# Altium footprint library 18650 battery.PCBLIB: 111 footprints (part 6 of 7)
Each footprint in its own frame and in the unit in brackets; x right, y up, seen from the top. Pads: shape width x height; smd on the part's side, far side on the other; paste and mask are expansions set on the pad; w line width, h text height; cw(c..) or ccw(c..) is an arc to the next point about the centre after c.
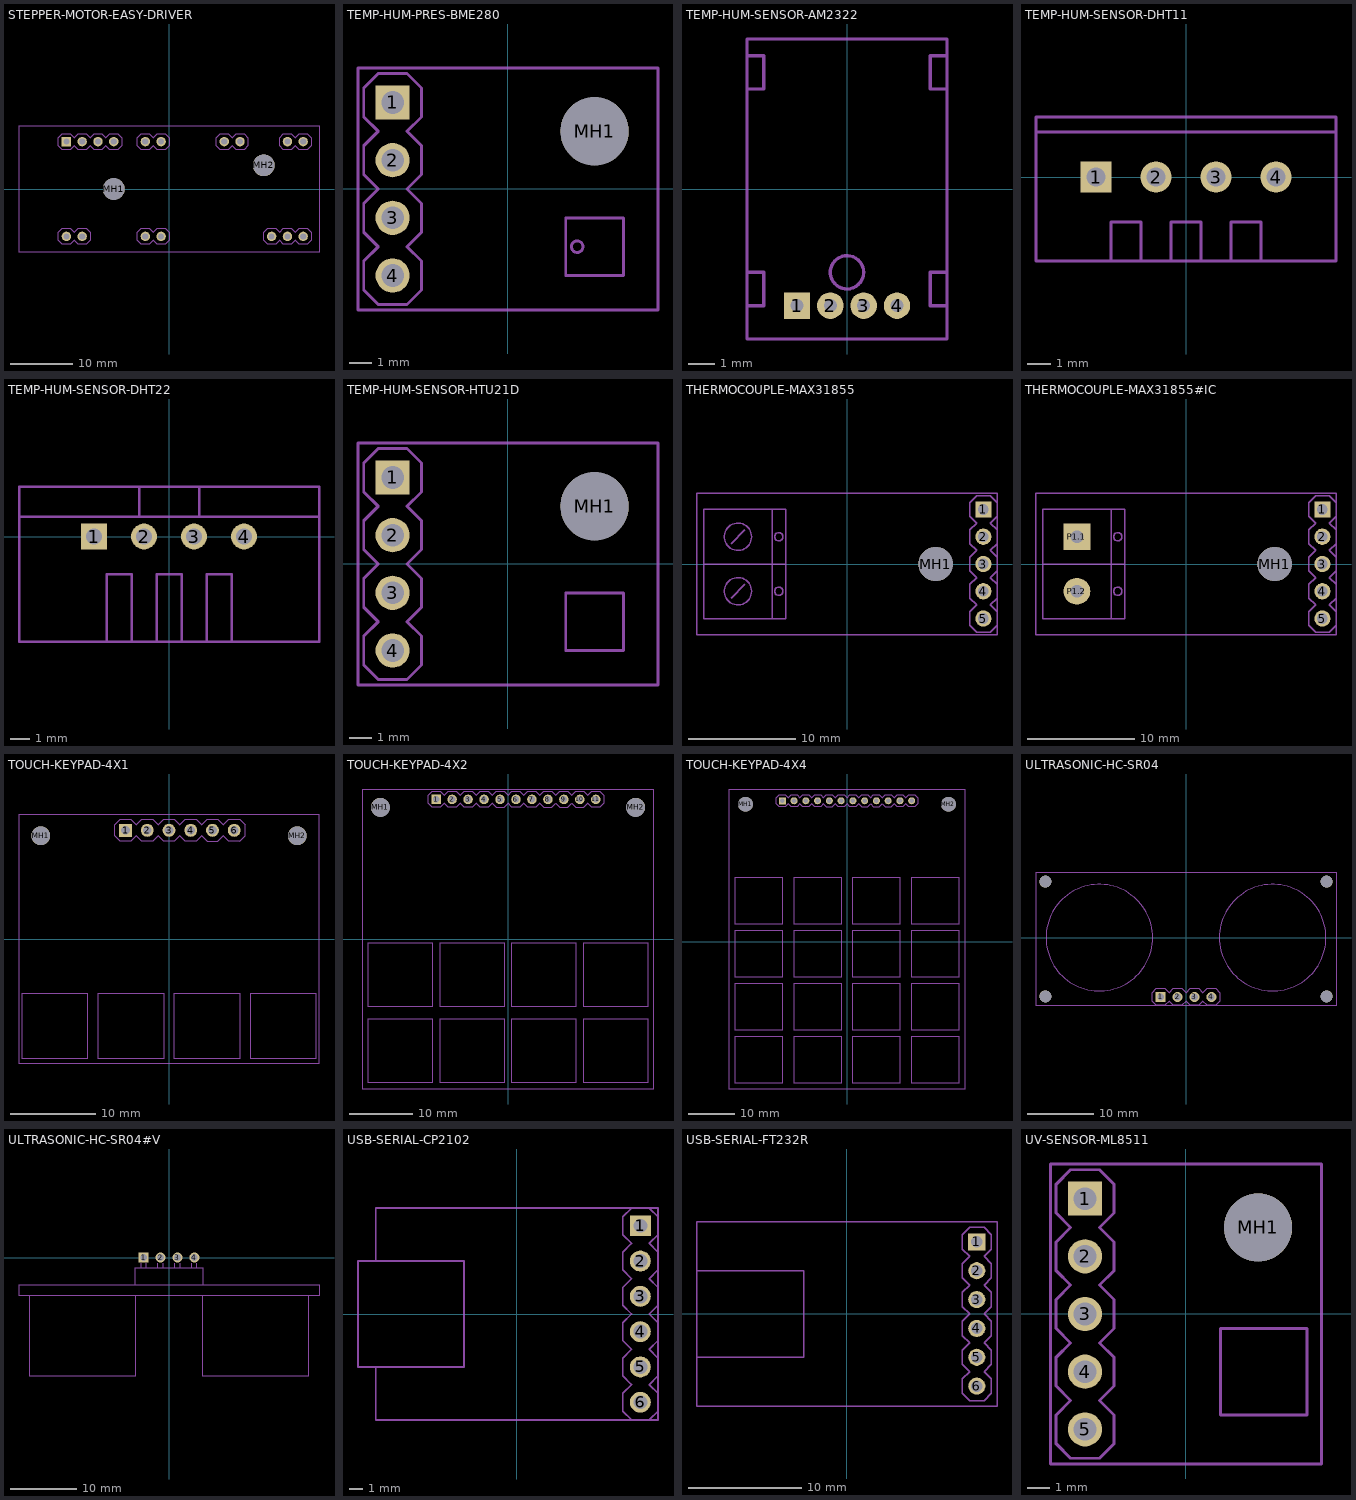
[diagram p5: the footprints below, top view; thin cyan lines are the x and y axes]

## STEPPER-MOTOR-EASY-DRIVER [mm]
pads (19):
  round 1.508 hole 1: JP1.1(19.05,7.62) JP1.2(21.59,7.62) JP2.1(16.51,-7.62) JP2.2(19.05,-7.62) JP2.3(21.59,-7.62) JP3.2(-13.97,7.62) JP3.3(-11.43,7.62) JP3.4(-8.89,7.62) JP4.1(-13.97,-7.62) JP4.2(-16.51,-7.62) JP5.1(-1.27,-7.62) JP5.2(-3.81,-7.62) JP6.1(8.89,7.62) JP6.2(11.43,7.62) JP7.1(-3.81,7.62) JP7.2(-1.27,7.62)
  rect 1.508x1.508 / inner round 1.393 / far side rect 1.508x1.508 hole 1: JP3.1(-16.51,7.62)
  round 3.5 hole 3.5 unplated: MH1(-8.89,0) MH2(15.24,3.81)
tPlace:
  lines w0.127: -24.13,-10.16 24.13,-10.16 24.13,10.16 -24.13,10.16 -24.13,-10.16 ; -17.78,-8.255 -17.145,-8.89 -15.875,-8.89 -15.24,-8.255 -14.605,-8.89 -13.335,-8.89 -12.7,-8.255 -12.7,-6.985 -13.335,-6.35 -14.605,-6.35 -15.24,-6.985 -15.875,-6.35 -17.145,-6.35 -17.78,-6.985 -17.78,-8.255 ; -17.78,6.985 -17.145,6.35 -15.875,6.35 -15.24,6.985 -14.605,6.35 -13.335,6.35 -12.7,6.985 -12.065,6.35 -10.795,6.35 -10.16,6.985 -9.525,6.35 -8.255,6.35 -7.62,6.985 -7.62,8.255 -8.255,8.89 -9.525,8.89 -10.16,8.255 -10.795,8.89 -12.065,8.89 -12.7,8.255 -13.335,8.89 -14.605,8.89 -15.24,8.255 -15.875,8.89 -17.145,8.89 -17.78,8.255 -17.78,6.985 ; -5.08,-8.255 -4.445,-8.89 -3.175,-8.89 -2.54,-8.255 -1.905,-8.89 -0.635,-8.89 0,-8.255 0,-6.985 -0.635,-6.35 -1.905,-6.35 -2.54,-6.985 -3.175,-6.35 -4.445,-6.35 -5.08,-6.985 -5.08,-8.255 ; -5.08,6.985 -4.445,6.35 -3.175,6.35 -2.54,6.985 -1.905,6.35 -0.635,6.35 0,6.985 0,8.255 -0.635,8.89 -1.905,8.89 -2.54,8.255 -3.175,8.89 -4.445,8.89 -5.08,8.255 -5.08,6.985 ; 7.62,6.985 8.255,6.35 9.525,6.35 10.16,6.985 10.795,6.35 12.065,6.35 12.7,6.985 12.7,8.255 12.065,8.89 10.795,8.89 10.16,8.255 9.525,8.89 8.255,8.89 7.62,8.255 7.62,6.985 ; 15.24,-8.255 15.875,-8.89 17.145,-8.89 17.78,-8.255 18.415,-8.89 19.685,-8.89 20.32,-8.255 20.955,-8.89 22.225,-8.89 22.86,-8.255 22.86,-6.985 22.225,-6.35 20.955,-6.35 20.32,-6.985 19.685,-6.35 18.415,-6.35 17.78,-6.985 17.145,-6.35 15.875,-6.35 15.24,-6.985 15.24,-8.255 ; 17.78,6.985 18.415,6.35 19.685,6.35 20.32,6.985 20.955,6.35 22.225,6.35 22.86,6.985 22.86,8.255 22.225,8.89 20.955,8.89 20.32,8.255 19.685,8.89 18.415,8.89 17.78,8.255 17.78,6.985
  text "GND" at -16.51,-5.715 h1.97
  text "+5V" at -13.97,-5.715 h1.97
  text "SLP" at -3.81,-5.715 h1.97
  text "MS1" at -1.27,-5.715 h1.97
  text "GND" at 16.51,-5.715 h1.97
  text "STER" at 19.05,-5.715 h1.97
  text "GND" at 21.59,-5.715 h1.97
  text "A.1" at -16.51,5.715 h1.97
  text "A.2" at -13.97,5.715 h1.97
  text "B.1" at -11.43,5.715 h1.97
  text "B.2" at -8.89,5.715 h1.97
  text "PFD" at -3.81,5.715 h1.97
  text "RST" at -1.27,5.715 h1.97
  text "ENA" at 8.89,5.715 h1.97
  text "MS2" at 11.43,5.715 h1.97
  text "GND" at 19.05,5.715 h1.97
  text "M+" at 21.59,5.715 h1.97

## TEMP-HUM-PRES-BME280 [mm]
pads (5):
  rect 1.508x1.508 / inner round 1.393 / far side rect 1.508x1.508 hole 1: 1(-5.08,3.81)
  round 1.508 hole 1: 2(-5.08,1.27) 3(-5.08,-1.27) 4(-5.08,-3.81)
  round 3 hole 3 unplated: MH1(3.81,2.54)
tPlace:
  circle w0.127: c3.048,-2.54 r0.254
  lines w0.127: -6.604,-5.334 6.604,-5.334 6.604,5.334 -6.604,5.334 -6.604,-5.334 ; -6.35,-4.445 -5.715,-5.08 -4.445,-5.08 -3.81,-4.445 -3.81,-3.175 -4.445,-2.54 -3.81,-1.905 -3.81,-0.635 -4.445,0 -3.81,0.635 -3.81,1.905 -4.445,2.54 -3.81,3.175 -3.81,4.445 -4.445,5.08 -5.715,5.08 -6.35,4.445 -6.35,3.175 -5.715,2.54 -6.35,1.905 -6.35,0.635 -5.715,0 -6.35,-0.635 -6.35,-1.905 -5.715,-2.54 -6.35,-3.175 -6.35,-4.445 ; 2.54,-3.81 5.08,-3.81 5.08,-1.27 2.54,-1.27 2.54,-3.81
  text "SCL" at -3.175,-1.27 h1.97
  text "GND" at -3.175,1.27 h1.97
  text "VIN" at -3.175,3.81 h1.97
  text "SDA" at -3.175,-3.81 h1.97

## TEMP-HUM-SENSOR-AM2322 [mil]
pads (4):
  rect 39.69x39.69 / inner round 36.67 / far side rect 39.69x39.69 hole 19.69: 1(-75,-175)
  round 39.69 hole 19.69: 2(-25,-175) 3(25,-175) 4(75,-175)
tPlace:
  circle w5: c0,-125 r25
  lines w5: -150,-175 -150,-225 150,-225 150,-175 ; -150,-175 -150,-125 ; -150,-175 -125,-175 -125,-125 -150,-125 ; -150,-125 -150,150 ; -150,150 -150,200 ; -150,150 -125,150 -125,200 -150,200 ; -150,200 -150,225 150,225 150,200 ; 150,-175 150,-125 ; 150,-175 125,-175 125,-125 150,-125 ; 150,-125 150,150 ; 150,150 150,200 ; 150,150 125,150 125,200 150,200

## TEMP-HUM-SENSOR-DHT11 [mil]
pads (4):
  rect 51.5x51.5 / inner round 47.58 / far side rect 51.5x51.5 hole 31.5: 1(-150,0)
  round 51.5 hole 31.5: 2(-50,0) 3(50,0) 4(150,0)
tPlace:
  lines w5: -250,75 -250,-140 -125,-140 ; -250,75 -250,100 250,100 250,75 ; -250,75 250,75 ; -125,-140 -75,-140 ; -125,-140 -125,-75 -75,-75 -75,-140 ; -75,-140 -25,-140 ; -25,-140 25,-140 ; -25,-140 -25,-75 25,-75 25,-140 ; 25,-140 75,-140 ; 75,-140 125,-140 ; 75,-140 75,-75 125,-75 125,-140 ; 125,-140 250,-140 250,75

## TEMP-HUM-SENSOR-DHT22 [mil]
pads (4):
  rect 51.5x51.5 / inner round 47.58 / far side rect 51.5x51.5 hole 31.5: 1(-150,0)
  round 51.5 hole 31.5: 2(-50,0) 3(50,0) 4(150,0)
tPlace:
  lines w5: -300,40 -300,-210 -125,-210 ; -300,40 -300,100 -60,100 ; -300,40 -60,40 ; -125,-210 -75,-210 ; -125,-210 -125,-75 -75,-75 -75,-210 ; -75,-210 -25,-210 ; -60,40 60,40 ; -60,40 -60,100 ; -60,100 60,100 ; -25,-210 25,-210 ; -25,-210 -25,-75 25,-75 25,-210 ; 25,-210 75,-210 ; 60,40 300,40 ; 60,40 60,100 ; 60,100 300,100 300,40 ; 75,-210 125,-210 ; 75,-210 75,-75 125,-75 125,-210 ; 125,-210 300,-210 300,40

## TEMP-HUM-SENSOR-HTU21D [mm]
pads (5):
  rect 1.508x1.508 / inner round 1.393 / far side rect 1.508x1.508 hole 1: 1(-5.08,3.81)
  round 1.508 hole 1: 2(-5.08,1.27) 3(-5.08,-1.27) 4(-5.08,-3.81)
  round 3 hole 3 unplated: MH1(3.81,2.54)
tPlace:
  lines w0.127: -6.604,-5.334 6.604,-5.334 6.604,5.334 -6.604,5.334 -6.604,-5.334 ; -6.35,-4.445 -5.715,-5.08 -4.445,-5.08 -3.81,-4.445 -3.81,-3.175 -4.445,-2.54 -3.81,-1.905 -3.81,-0.635 -4.445,0 -3.81,0.635 -3.81,1.905 -4.445,2.54 -3.81,3.175 -3.81,4.445 -4.445,5.08 -5.715,5.08 -6.35,4.445 -6.35,3.175 -5.715,2.54 -6.35,1.905 -6.35,0.635 -5.715,0 -6.35,-0.635 -6.35,-1.905 -5.715,-2.54 -6.35,-3.175 -6.35,-4.445 ; 2.54,-3.81 5.08,-3.81 5.08,-1.27 2.54,-1.27 2.54,-3.81
  text "SCL" at -3.175,-1.27 h1.97
  text "GND" at -3.175,1.27 h1.97
  text "VIN" at -3.175,3.81 h1.97
  text "SDA" at -3.175,-3.81 h1.97

## THERMOCOUPLE-MAX31855 [mm]
pads (6):
  rect 1.508x1.508 / inner round 1.393 / far side rect 1.508x1.508 hole 1: 1(12.7,5.08)
  round 1.508 hole 1: 2(12.7,2.54) 3(12.7,0) 4(12.7,-2.54) 5(12.7,-5.08)
  round 3.2 hole 3.2 unplated: MH1(8.255,0)
tPlace:
  circle w0.127: c-10.16,2.54 r1.27
  circle w0.127: c-10.16,-2.54 r1.27
  circle w0.127: c-6.35,2.54 r0.381
  circle w0.127: c-6.35,-2.54 r0.381
  lines w0.127: -10.795,-3.175 -9.525,-1.905 ; -10.795,1.905 -9.525,3.175 ; 13.97,-5.715 13.335,-6.35 12.065,-6.35 11.43,-5.715 11.43,-4.445 12.065,-3.81 11.43,-3.175 11.43,-1.905 12.065,-1.27 11.43,-0.635 11.43,0.635 12.065,1.27 11.43,1.905 11.43,3.175 12.065,3.81 11.43,4.445 11.43,5.715 12.065,6.35 13.335,6.35 13.97,5.715 ; 13.97,-4.445 13.335,-3.81 13.97,-3.175 ; 13.97,-1.905 13.335,-1.27 13.97,-0.635 ; 13.97,0.635 13.335,1.27 13.97,1.905 ; 13.97,3.175 13.335,3.81 13.97,4.445 ; -13.335,0 -13.335,-5.08 -6.985,-5.08 ; -13.335,0 -13.335,5.08 -6.985,5.08 ; -13.335,0 -5.715,0 ; -6.985,-5.08 -5.715,-5.08 -5.715,0 ; -6.985,-5.08 -6.985,5.08 ; -6.985,5.08 -5.715,5.08 -5.715,0 ; -13.97,-6.604 13.97,-6.604 13.97,6.604 -13.97,6.604 -13.97,-6.604
  text "T-" at -4.445,2.54 h1.97
  text "T+" at -4.445,-2.54 h1.97
  text "VCC" at 10.795,5.08 h1.97
  text "GND" at 10.795,2.54 h1.97
  text "CS" at 10.795,-2.54 h1.97
  text "SCK" at 10.795,-5.08 h1.97
  text "SO" at 5.715,0 h1.97

## THERMOCOUPLE-MAX31855#IC [mm]
pads (8):
  rect 1.508x1.508 / inner round 1.393 / far side rect 1.508x1.508 hole 1: 1(12.7,5.08)
  round 1.508 hole 1: 2(12.7,2.54) 3(12.7,0) 4(12.7,-2.54) 5(12.7,-5.08)
  round 3.2 hole 3.2 unplated: MH1(8.255,0)
  rect 2.5x2.5 / inner round 2.31 / far side rect 2.5x2.5 hole 1.2: P1.1(-10.16,2.54)
  round 2.5 hole 1.2: P1.2(-10.16,-2.54)
tPlace:
  circle w0.127: c-6.35,2.54 r0.381
  circle w0.127: c-6.35,-2.54 r0.381
  lines w0.127: 13.97,-5.715 13.335,-6.35 12.065,-6.35 11.43,-5.715 11.43,-4.445 12.065,-3.81 11.43,-3.175 11.43,-1.905 12.065,-1.27 11.43,-0.635 11.43,0.635 12.065,1.27 11.43,1.905 11.43,3.175 12.065,3.81 11.43,4.445 11.43,5.715 12.065,6.35 13.335,6.35 13.97,5.715 ; 13.97,-4.445 13.335,-3.81 13.97,-3.175 ; 13.97,-1.905 13.335,-1.27 13.97,-0.635 ; 13.97,0.635 13.335,1.27 13.97,1.905 ; 13.97,3.175 13.335,3.81 13.97,4.445 ; -13.335,0 -13.335,-5.08 -6.985,-5.08 ; -13.335,0 -13.335,5.08 -6.985,5.08 ; -13.335,0 -5.715,0 ; -6.985,-5.08 -5.715,-5.08 -5.715,0 ; -6.985,-5.08 -6.985,5.08 ; -6.985,5.08 -5.715,5.08 -5.715,0 ; -13.97,-6.604 13.97,-6.604 13.97,6.604 -13.97,6.604 -13.97,-6.604
  text "T-" at -4.445,2.54 h1.97
  text "T+" at -4.445,-2.54 h1.97
  text "VCC" at 10.795,5.08 h1.97
  text "GND" at 10.795,2.54 h1.97
  text "CS" at 10.795,-2.54 h1.97
  text "SCK" at 10.795,-5.08 h1.97
  text "SO" at 5.715,0 h1.97

## TOUCH-KEYPAD-4X1 [mm]
pads (8):
  rect 1.508x1.508 / inner round 1.393 / far side rect 1.508x1.508 hole 1: 1(-5.08,12.7)
  round 1.508 hole 1: 2(-2.54,12.7) 3(0,12.7) 4(2.54,12.7) 5(5.08,12.7) 6(7.62,12.7)
  round 2.2 hole 2.2 unplated: MH1(-14.986,12.065) MH2(14.986,12.065)
tPlace:
  lines w0.127: -17.526,-14.605 -17.526,14.605 17.526,14.605 17.526,-14.605 -17.526,-14.605 ; -17.145,-13.97 -9.525,-13.97 -9.525,-6.35 -17.145,-6.35 -17.145,-13.97 ; -8.255,-13.97 -0.635,-13.97 -0.635,-6.35 -8.255,-6.35 -8.255,-13.97 ; -6.35,12.065 -5.715,11.43 -4.445,11.43 -3.81,12.065 -3.175,11.43 -1.905,11.43 -1.27,12.065 -0.635,11.43 0.635,11.43 1.27,12.065 1.905,11.43 3.175,11.43 3.81,12.065 4.445,11.43 5.715,11.43 6.35,12.065 6.985,11.43 8.255,11.43 8.89,12.065 8.89,13.335 8.255,13.97 6.985,13.97 6.35,13.335 5.715,13.97 4.445,13.97 3.81,13.335 3.175,13.97 1.905,13.97 1.27,13.335 0.635,13.97 -0.635,13.97 -1.27,13.335 -1.905,13.97 -3.175,13.97 -3.81,13.335 -4.445,13.97 -5.715,13.97 -6.35,13.335 -6.35,12.065 ; 0.635,-13.97 8.255,-13.97 8.255,-6.35 0.635,-6.35 0.635,-13.97 ; 9.525,-13.97 17.145,-13.97 17.145,-6.35 9.525,-6.35 9.525,-13.97
  text "OUT1" at -5.08,10.795 h1.97
  text "OUT2" at -2.54,10.795 h1.97
  text "OUT3" at 0,10.795 h1.97
  text "OUT4" at 2.54,10.795 h1.97
  text "VCC" at 7.62,10.795 h1.97
  text "GND" at 5.08,10.795 h1.97
  text "2" at -4.445,-10.16 h3.94
  text "1" at -13.335,-10.16 h3.94
  text "4" at 13.335,-10.16 h3.94
  text "3" at 4.445,-10.16 h3.94

## TOUCH-KEYPAD-4X2 [mm]
pads (13):
  rect 1.508x1.508 / inner round 1.393 / far side rect 1.508x1.508 hole 1: 1(-11.43,22.225)
  round 1.508 hole 1: 2(-8.89,22.225) 3(-6.35,22.225) 4(-3.81,22.225) 5(-1.27,22.225) 6(1.27,22.225) 7(3.81,22.225) 8(6.35,22.225) 9(8.89,22.225) 10(11.43,22.225) 11(13.97,22.225)
  round 3 hole 3 unplated: MH1(-20.32,20.955) MH2(20.32,20.955)
tPlace:
  lines w0.127: -23.114,-23.876 -23.114,23.876 23.114,23.876 23.114,-23.876 -23.114,-23.876 ; -22.225,-22.86 -12.065,-22.86 -12.065,-12.7 -22.225,-12.7 -22.225,-22.86 ; -22.225,-10.795 -12.065,-10.795 -12.065,-0.635 -22.225,-0.635 -22.225,-10.795 ; -12.7,21.59 -12.065,20.955 -10.795,20.955 -10.16,21.59 -9.525,20.955 -8.255,20.955 -7.62,21.59 -6.985,20.955 -5.715,20.955 -5.08,21.59 -4.445,20.955 -3.175,20.955 -2.54,21.59 -1.905,20.955 -0.635,20.955 0,21.59 0.635,20.955 1.905,20.955 2.54,21.59 3.175,20.955 4.445,20.955 5.08,21.59 5.715,20.955 6.985,20.955 7.62,21.59 8.255,20.955 9.525,20.955 10.16,21.59 10.795,20.955 12.065,20.955 12.7,21.59 13.335,20.955 14.605,20.955 15.24,21.59 15.24,22.86 14.605,23.495 13.335,23.495 12.7,22.86 12.065,23.495 10.795,23.495 10.16,22.86 9.525,23.495 8.255,23.495 7.62,22.86 6.985,23.495 5.715,23.495 5.08,22.86 4.445,23.495 3.175,23.495 2.54,22.86 1.905,23.495 0.635,23.495 0,22.86 -0.635,23.495 -1.905,23.495 -2.54,22.86 -3.175,23.495 -4.445,23.495 -5.08,22.86 -5.715,23.495 -6.985,23.495 -7.62,22.86 -8.255,23.495 -9.525,23.495 -10.16,22.86 -10.795,23.495 -12.065,23.495 -12.7,22.86 -12.7,21.59 ; -10.795,-22.86 -0.635,-22.86 -0.635,-12.7 -10.795,-12.7 -10.795,-22.86 ; -10.795,-10.795 -0.635,-10.795 -0.635,-0.635 -10.795,-0.635 -10.795,-10.795 ; 0.635,-22.86 10.795,-22.86 10.795,-12.7 0.635,-12.7 0.635,-22.86 ; 0.635,-10.795 10.795,-10.795 10.795,-0.635 0.635,-0.635 0.635,-10.795 ; 12.065,-22.86 22.225,-22.86 22.225,-12.7 12.065,-12.7 12.065,-22.86 ; 12.065,-10.795 22.225,-10.795 22.225,-0.635 12.065,-0.635 12.065,-10.795
  text "DV" at -11.43,20.32 h1.97
  text "OUT8" at -8.89,20.32 h1.97
  text "OUT7" at -6.35,20.32 h1.97
  text "OUT6" at -3.81,20.32 h1.97
  text "OUT4" at 1.27,20.32 h1.97
  text "OUT3" at 3.81,20.32 h1.97
  text "GND" at 13.97,20.32 h1.97
  text "OUT5" at -1.27,20.32 h1.97
  text "OUT2" at 6.35,20.32 h1.97
  text "OUT1" at 8.89,20.32 h1.97
  text "VCC" at 11.43,20.32 h1.97
  text "7" at -5.715,-5.715 h3.94
  text "3" at -5.715,-17.78 h3.94
  text "8" at -17.145,-5.715 h3.94
  text "4" at -17.145,-17.78 h3.94
  text "5" at 17.145,-5.715 h3.94
  text "1" at 17.145,-17.78 h3.94
  text "6" at 5.715,-5.715 h3.94
  text "2" at 5.715,-17.78 h3.94

## TOUCH-KEYPAD-4X4 [mm]
pads (14):
  rect 1.508x1.508 / inner round 1.393 / far side rect 1.508x1.508 hole 1: 1(-13.97,30.48)
  round 1.508 hole 1: 2(-11.43,30.48) 3(-8.89,30.48) 4(-6.35,30.48) 5(-3.81,30.48) 6(-1.27,30.48) 7(1.27,30.48) 8(3.81,30.48) 9(6.35,30.48) 10(8.89,30.48) 11(11.43,30.48) 12(13.97,30.48)
  round 3.2 hole 3.2 unplated: MH1(-21.907,29.718) MH2(21.907,29.718)
tPlace:
  lines w0.127: -25.4,-31.75 -25.4,33.02 25.4,33.02 25.4,-31.75 -25.4,-31.75 ; -24.13,-30.48 -13.97,-30.48 -13.97,-20.32 -24.13,-20.32 -24.13,-30.48 ; -24.13,-19.05 -13.97,-19.05 -13.97,-8.89 -24.13,-8.89 -24.13,-19.05 ; -24.13,-7.62 -13.97,-7.62 -13.97,2.54 -24.13,2.54 -24.13,-7.62 ; -24.13,3.81 -13.97,3.81 -13.97,13.97 -24.13,13.97 -24.13,3.81 ; -15.24,29.845 -14.605,29.21 -13.335,29.21 -12.7,29.845 -12.065,29.21 -10.795,29.21 -10.16,29.845 -9.525,29.21 -8.255,29.21 -7.62,29.845 -6.985,29.21 -5.715,29.21 -5.08,29.845 -4.445,29.21 -3.175,29.21 -2.54,29.845 -1.905,29.21 -0.635,29.21 0,29.845 0.635,29.21 1.905,29.21 2.54,29.845 3.175,29.21 4.445,29.21 5.08,29.845 5.715,29.21 6.985,29.21 7.62,29.845 8.255,29.21 9.525,29.21 10.16,29.845 10.795,29.21 12.065,29.21 12.7,29.845 13.335,29.21 14.605,29.21 15.24,29.845 15.24,31.115 14.605,31.75 13.335,31.75 12.7,31.115 12.065,31.75 10.795,31.75 10.16,31.115 9.525,31.75 8.255,31.75 7.62,31.115 6.985,31.75 5.715,31.75 5.08,31.115 4.445,31.75 3.175,31.75 2.54,31.115 1.905,31.75 0.635,31.75 0,31.115 -0.635,31.75 -1.905,31.75 -2.54,31.115 -3.175,31.75 -4.445,31.75 -5.08,31.115 -5.715,31.75 -6.985,31.75 -7.62,31.115 -8.255,31.75 -9.525,31.75 -10.16,31.115 -10.795,31.75 -12.065,31.75 -12.7,31.115 -13.335,31.75 -14.605,31.75 -15.24,31.115 -15.24,29.845 ; -11.43,-30.48 -1.27,-30.48 -1.27,-20.32 -11.43,-20.32 -11.43,-30.48 ; -11.43,-19.05 -1.27,-19.05 -1.27,-8.89 -11.43,-8.89 -11.43,-19.05 ; -11.43,-7.62 -1.27,-7.62 -1.27,2.54 -11.43,2.54 -11.43,-7.62 ; -11.43,3.81 -1.27,3.81 -1.27,13.97 -11.43,13.97 -11.43,3.81 ; 1.27,-30.48 11.43,-30.48 11.43,-20.32 1.27,-20.32 1.27,-30.48 ; 1.27,-19.05 11.43,-19.05 11.43,-8.89 1.27,-8.89 1.27,-19.05 ; 1.27,-7.62 11.43,-7.62 11.43,2.54 1.27,2.54 1.27,-7.62 ; 1.27,3.81 11.43,3.81 11.43,13.97 1.27,13.97 1.27,3.81 ; 13.97,-30.48 24.13,-30.48 24.13,-20.32 13.97,-20.32 13.97,-30.48 ; 13.97,-19.05 24.13,-19.05 24.13,-8.89 13.97,-8.89 13.97,-19.05 ; 13.97,-7.62 24.13,-7.62 24.13,2.54 13.97,2.54 13.97,-7.62 ; 13.97,3.81 24.13,3.81 24.13,13.97 13.97,13.97 13.97,3.81
  text "VCC" at -13.97,28.575 h1.97
  text "GND" at -11.43,28.575 h1.97
  text "SCL" at -8.89,28.575 h1.97
  text "SDO" at -6.35,28.575 h1.97
  text "OUT2" at -1.27,28.575 h1.97
  text "OUT3" at 1.27,28.575 h1.97
  text "OUT7" at 11.43,28.575 h1.97
  text "OUT8" at 13.97,28.575 h1.97
  text "OUT1" at -3.81,28.575 h1.97
  text "OUT4" at 3.81,28.575 h1.97
  text "OUT5" at 6.35,28.575 h1.97
  text "OUT6" at 8.89,28.575 h1.97
  text "1" at -19.05,8.89 h3.94
  text "2" at -6.35,8.89 h3.94
  text "3" at 6.35,8.89 h3.94
  text "4" at 19.05,8.89 h3.94
  text "5" at -19.05,-2.54 h3.94
  text "6" at -6.35,-2.54 h3.94
  text "7" at 6.35,-2.54 h3.94
  text "8" at 19.05,-2.54 h3.94
  text "9" at -19.05,-13.97 h3.94
  text "10" at -6.35,-13.97 h3.94
  text "11" at 6.35,-13.97 h3.94
  text "12" at 19.05,-13.97 h3.94
  text "13" at -19.05,-25.4 h3.94
  text "14" at -6.35,-25.4 h3.94
  text "15" at 6.35,-25.4 h3.94
  text "16" at 19.05,-25.4 h3.94

## ULTRASONIC-HC-SR04 [mm]
pads (8):
  rect 1.508x1.508 / inner round 1.393 / far side rect 1.508x1.508 hole 1: 1(-3.81,-8.89)
  round 1.508 hole 1: 2(-1.27,-8.89) 3(1.27,-8.89) 4(3.81,-8.89)
  round 1.8 hole 1.8 unplated: MH1(-21.1,8.4) MH2(-21.1,-8.8) MH3(21.1,-8.8) MH4(21.1,8.4)
tPlace:
  circle w0.127: c-13,0 r8
  circle w0.127: c13,0 r8
  lines w0.127: -22.5,-10.2 22.5,-10.2 22.5,9.8 -22.5,9.8 -22.5,-10.2 ; -5.08,-9.525 -4.445,-10.16 -3.175,-10.16 -2.54,-9.525 -1.905,-10.16 -0.635,-10.16 0,-9.525 0.635,-10.16 1.905,-10.16 2.54,-9.525 3.175,-10.16 4.445,-10.16 5.08,-9.525 5.08,-8.255 4.445,-7.62 3.175,-7.62 2.54,-8.255 1.905,-7.62 0.635,-7.62 0,-8.255 -0.635,-7.62 -1.905,-7.62 -2.54,-8.255 -3.175,-7.62 -4.445,-7.62 -5.08,-8.255 -5.08,-9.525

## ULTRASONIC-HC-SR04#V [mm]
pads (4):
  rect 1.508x1.508 / inner round 1.393 / far side rect 1.508x1.508 hole 1: 1(-3.81,0)
  round 1.508 hole 1: 2(-1.27,0) 3(1.27,0) 4(3.81,0)
tPlace:
  lines w0.127: -4.191,-0.889 -4.191,-1.524 ; -3.429,-0.889 -3.429,-1.524 ; -1.651,-0.889 -1.651,-1.524 ; -0.889,-0.889 -0.889,-1.524 ; 0.889,-0.889 0.889,-1.524 ; 1.651,-0.889 1.651,-1.524 ; 3.429,-0.889 3.429,-1.524 ; 4.191,-0.889 4.191,-1.524 ; -21,-5.7 -5,-5.7 ; -21,-5.7 -22.5,-5.7 -22.5,-4.064 22.5,-4.064 22.5,-5.7 21,-5.7 ; -21,-5.7 -21,-17.7 -5,-17.7 -5,-5.7 ; -5,-5.7 5,-5.7 ; -4.191,-1.524 -5.08,-1.524 -5.08,-4.064 5.08,-4.064 5.08,-1.524 4.191,-1.524 ; -4.191,-1.524 -3.429,-1.524 ; -3.429,-1.524 -1.651,-1.524 ; -1.651,-1.524 -0.889,-1.524 ; -0.889,-1.524 0.889,-1.524 ; 0.889,-1.524 1.651,-1.524 ; 1.651,-1.524 3.429,-1.524 ; 3.429,-1.524 4.191,-1.524 ; 5,-5.7 21,-5.7 ; 5,-5.7 5,-17.7 21,-17.7 21,-5.7

## USB-SERIAL-CP2102 [mm]
pads (6):
  rect 1.508x1.508 / inner round 1.393 / far side rect 1.508x1.508 hole 1: 1(8.89,6.35)
  round 1.508 hole 1: 2(8.89,3.81) 3(8.89,1.27) 4(8.89,-1.27) 5(8.89,-3.81) 6(8.89,-6.35)
tPlace:
  lines w0.127: 8.255,-7.62 7.62,-6.985 7.62,-5.715 8.255,-5.08 7.62,-4.445 7.62,-3.175 8.255,-2.54 7.62,-1.905 7.62,-0.635 8.255,0 7.62,0.635 7.62,1.905 8.255,2.54 7.62,3.175 7.62,4.445 8.255,5.08 7.62,5.715 7.62,6.985 8.255,7.62 ; 9.525,-7.62 10.16,-6.985 ; 9.525,7.62 10.16,6.985 ; 10.16,-5.715 9.525,-5.08 10.16,-4.445 ; 10.16,-3.175 9.525,-2.54 10.16,-1.905 ; 10.16,-0.635 9.525,0 10.16,0.635 ; 10.16,1.905 9.525,2.54 10.16,3.175 ; 10.16,4.445 9.525,5.08 10.16,5.715 ; -10.16,-3.81 -10.16,-7.62 10.16,-7.62 10.16,7.62 -10.16,7.62 -10.16,3.81 ; -10.16,-3.81 -3.81,-3.81 -3.81,3.81 -10.16,3.81 ; -10.16,-3.81 -11.43,-3.81 -11.43,3.81 -10.16,3.81
  text "USB" at -7.62,0 h2.76
  text "3V3" at 6.35,6.35 h1.97
  text "DTR" at 6.35,3.81 h1.97
  text "RXI" at 6.35,1.27 h1.97
  text "TXO" at 6.35,-1.27 h1.97
  text "GND" at 6.35,-3.81 h1.97
  text "+5V" at 6.35,-6.35 h1.97

## USB-SERIAL-FT232R [mm]
pads (6):
  rect 1.508x1.508 / inner round 1.393 / far side rect 1.508x1.508 hole 1: 1(11.43,6.35)
  round 1.508 hole 1: 2(11.43,3.81) 3(11.43,1.27) 4(11.43,-1.27) 5(11.43,-3.81) 6(11.43,-6.35)
tPlace:
  lines w0.127: -13.208,-3.81 -13.208,3.81 ; -13.208,-3.81 -13.208,-8.128 13.208,-8.128 13.208,8.128 -13.208,8.128 -13.208,3.81 ; -13.208,-3.81 -3.81,-3.81 -3.81,3.81 -13.208,3.81 ; 10.16,-6.985 10.16,-5.715 10.795,-5.08 10.16,-4.445 10.16,-3.175 10.795,-2.54 10.16,-1.905 10.16,-0.635 10.795,0 10.16,0.635 10.16,1.905 10.795,2.54 10.16,3.175 10.16,4.445 10.795,5.08 10.16,5.715 10.16,6.985 10.795,7.62 12.065,7.62 12.7,6.985 12.7,5.715 12.065,5.08 12.7,4.445 12.7,3.175 12.065,2.54 12.7,1.905 12.7,0.635 12.065,0 12.7,-0.635 12.7,-1.905 12.065,-2.54 12.7,-3.175 12.7,-4.445 12.065,-5.08 12.7,-5.715 12.7,-6.985 12.065,-7.62 10.795,-7.62 10.16,-6.985
  text "USB" at -8.89,0 h2.76
  text "DTR" at 8.89,6.35 h1.97
  text "RX" at 8.89,3.81 h1.97
  text "TX" at 8.89,1.27 h1.97
  text "VCC" at 8.89,-1.27 h1.97
  text "CTS" at 8.89,-3.81 h1.97
  text "GND" at 8.89,-6.35 h1.97

## UV-SENSOR-ML8511 [mm]
pads (6):
  rect 1.508x1.508 / inner round 1.393 / far side rect 1.508x1.508 hole 1: 1(-4.445,5.08)
  round 1.508 hole 1: 2(-4.445,2.54) 3(-4.445,0) 4(-4.445,-2.54) 5(-4.445,-5.08)
  round 3 hole 3 unplated: MH1(3.175,3.81)
tPlace:
  lines w0.127: -5.969,-6.604 5.969,-6.604 5.969,6.604 -5.969,6.604 -5.969,-6.604 ; -5.715,-5.715 -5.715,-4.445 -5.08,-3.81 -5.715,-3.175 -5.715,-1.905 -5.08,-1.27 -5.715,-0.635 -5.715,0.635 -5.08,1.27 -5.715,1.905 -5.715,3.175 -5.08,3.81 -5.715,4.445 -5.715,5.715 -5.08,6.35 -3.81,6.35 -3.175,5.715 -3.175,4.445 -3.81,3.81 -3.175,3.175 -3.175,1.905 -3.81,1.27 -3.175,0.635 -3.175,-0.635 -3.81,-1.27 -3.175,-1.905 -3.175,-3.175 -3.81,-3.81 -3.175,-4.445 -3.175,-5.715 -3.81,-6.35 -5.08,-6.35 -5.715,-5.715 ; 1.524,-4.445 5.334,-4.445 5.334,-0.635 1.524,-0.635 1.524,-4.445
  text "GND" at -2.54,0 h1.97
  text "3V3" at -2.54,2.54 h1.97
  text "VIN" at -2.54,5.08 h1.97
  text "OUT" at -2.54,-2.54 h1.97
  text "EN" at -2.54,-5.08 h1.97